# Altium footprint library nrf.PcbLib: 1 footprints
Each footprint in its own frame and in the unit in brackets; x right, y up, seen from the top. Pads: shape width x height; smd on the part's side, far side on the other; paste and mask are expansions set on the pad; w line width, h text height; cw(c..) or ccw(c..) is an arc to the next point about the centre after c.
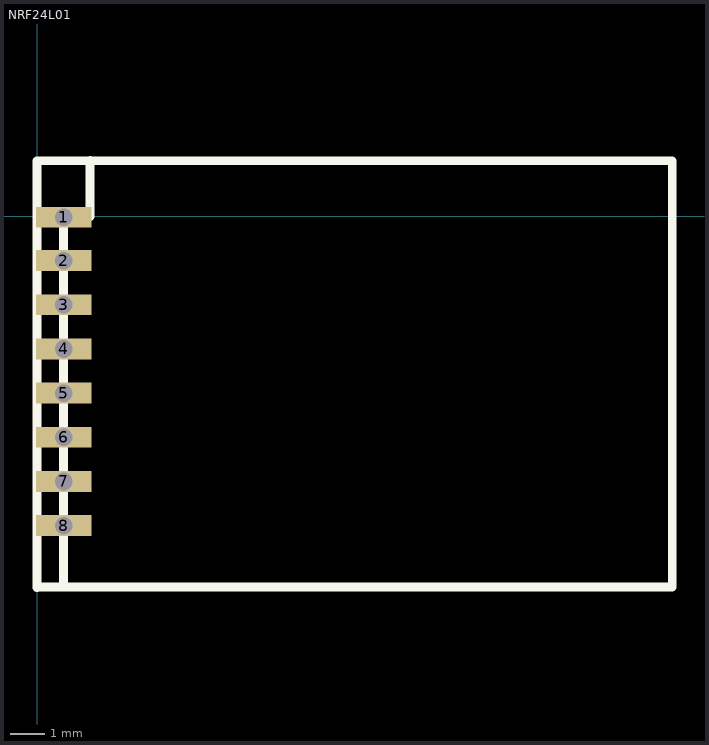
[diagram p0: the footprint, top view; thin cyan lines are the x and y axes]

## NRF24L01 [mil] "smd"
pads (8):
  rect 62.99x23.62 hole 20: 1(30,-1) 2(30,-49.99) 3(30,-100) 4(30,-150) 5(30,-200) 6(30,-250) 7(30,-300) 8(30,-350)
Top Overlay:
  lines w10: 0,-420 0,63 718.82,63 718.82,-419.44 0.16,-419.44 ; 30,-412.99 30,-350 30,-300 30,-250 30,-200 30,-150 30,-100 30,-50 30,0.01 ; 60,0.01 60,63 ; 60.16,0.27 60.16,63.26
3D body "User Library-4-11.STEP": height 32, standoff 0.5, extent -3,-412.22 705.66,60.22